# Altium footprint library Triac.PcbLib: 1 footprints
Each footprint in its own frame and in the unit in brackets; x right, y up, seen from the top. Pads: shape width x height; smd on the part's side, far side on the other; paste and mask are expansions set on the pad; w line width, h text height; cw(c..) or ccw(c..) is an arc to the next point about the centre after c.
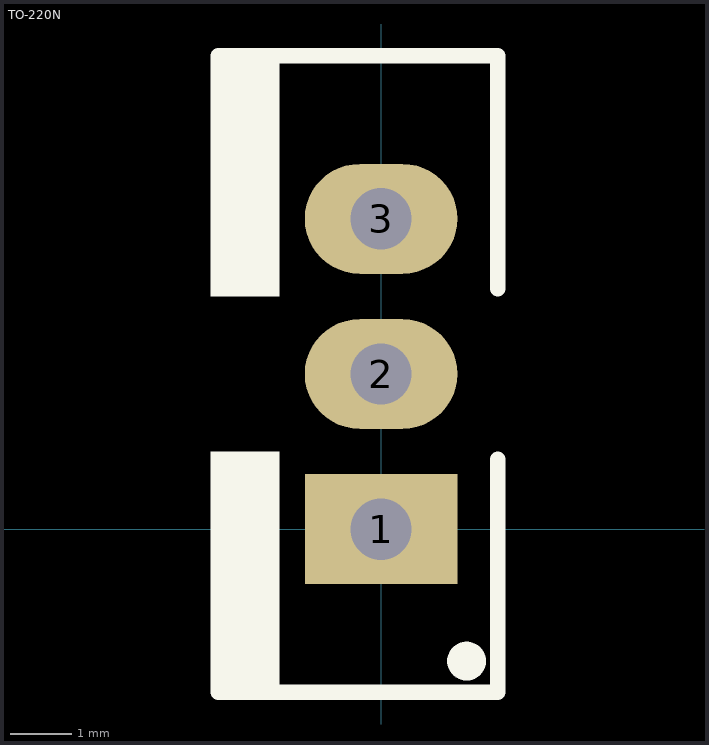
[diagram p0: the footprint, top view; thin cyan lines are the x and y axes]

## TO-220N [mm] "TO-220N"
pads (3):
  rect 2.5x1.8 hole 1: 1(0,0)
  oval 2.5x1.8 hole 1: 2(0,2.54) 3(0,5.08)
Top Overlay:
  circle w0.381: c1.397,-2.159 r0.127
  rectangle: -2.794,-2.667 -1.66,1.27
  rectangle: -2.794,3.81 -1.66,7.747
  lines w0.2: 1.88,-2.653 1.905,-2.653 ; 1.88,7.733 1.905,7.733
  lines w0.254: -2.667,-2.667 1.905,-2.667 ; -2.667,7.747 1.905,7.747 ; 1.905,-2.653 1.905,1.143 ; 1.905,3.937 1.905,7.733
3D body "TO220.STEP": height 18.66, standoff -9.74, extent -2.62,-2.667 1.88,7.733